# EAGLE library part PINHD-3X9 (library 25pinhead)
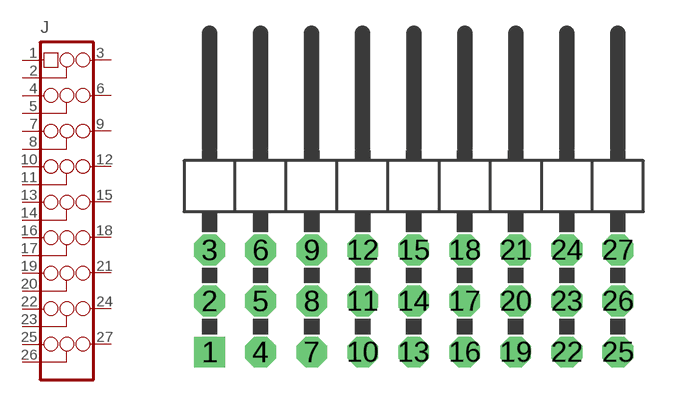
[diagram p49: symbol with the pads of 3X9/90; footprint 3X9/90]

Designator prefix J

## PINHD-3X9/90  [3X9/90]
1  1  pas
2  2  pas
3  3  pas
4  4  pas
5  5  pas
6  6  pas
7  7  pas
8  8  pas
9  9  pas
10  10  pas
11  11  pas
12  12  pas
13  13  pas
14  14  pas
15  15  pas
16  16  pas
17  17  pas
18  18  pas
19  19  pas
20  20  pas
21  21  pas
22  22  pas
23  23  pas
24  24  pas
25  25  pas
26  26  pas
27  27  pas

## Footprint 3X9/90 (pad centres in mm)
drill 1.016 square: 1 -10.16,-7.62
drill 1.016 octagon: 2 -10.16,-5.08; 3 -10.16,-2.54; 4 -7.62,-7.62; 5 -7.62,-5.08; 6 -7.62,-2.54; 7 -5.08,-7.62; 8 -5.08,-5.08; 9 -5.08,-2.54; 10 -2.54,-7.62; 11 -2.54,-5.08; 12 -2.54,-2.54; 13 0,-7.62; 14 0,-5.08; 15 0,-2.54; 16 2.54,-7.62; 17 2.54,-5.08; 18 2.54,-2.54; 19 5.08,-7.62; 20 5.08,-5.08; 21 5.08,-2.54; 22 7.62,-7.62; 23 7.62,-5.08; 24 7.62,-2.54; 25 10.16,-7.62; 26 10.16,-5.08; 27 10.16,-2.54